# Altium footprint library XF2M-0815-1A.PcbLib: 1 footprints
Each footprint in its own frame and in the unit in brackets; x right, y up, seen from the top. Pads: shape width x height; smd on the part's side, far side on the other; paste and mask are expansions set on the pad; w line width, h text height; cw(c..) or ccw(c..) is an arc to the next point about the centre after c.
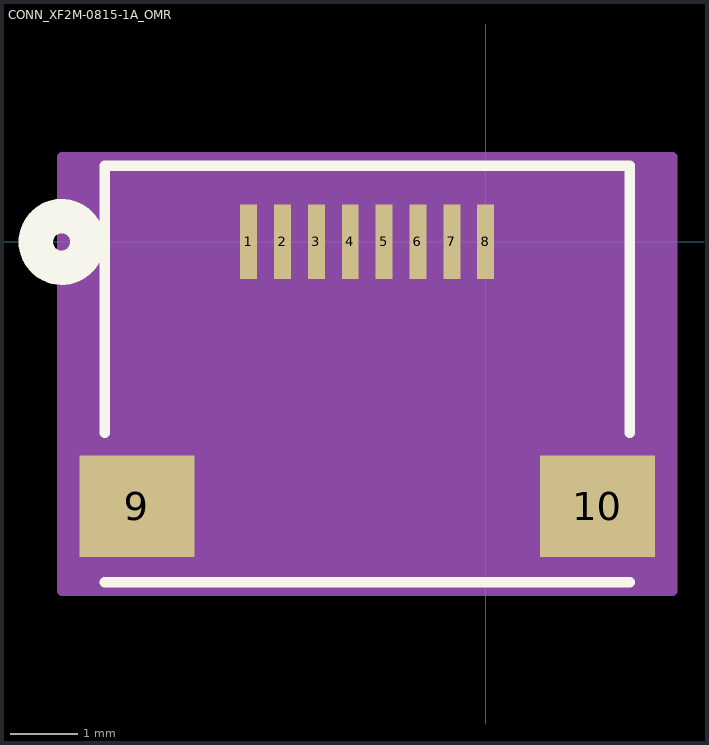
[diagram p0: the footprint, top view; thin cyan lines are the x and y axes]

## CONN_XF2M-0815-1A_OMR [mm]
pads (10):
  rect 0.25x1.1 smd paste+0 mask+0: 1(-3.5,0) 2(-3,0) 3(-2.5,0) 4(-2,0) 5(-1.5,0) 6(-1,0) 7(-0.5,0) 8(0,0)
  rect 1.7x1.5 smd paste-0.85 mask-0.851: 9(-5.15,-3.9) 10(1.65,-3.9)
Top Overlay:
  circle w0.508: c-6.262,0 r0.381
  lines w0.152: -5.627,-5.027 2.127,-5.027 ; -5.627,-2.817 -5.627,1.127 2.127,1.127 2.127,-2.817
  text ".Designator" at -5.242,-0.635 h1.27
Bottom Overlay:
  circle w0.508: c-6.262,0 r0.381
Mechanical 13:
  circle w0.508: c-3.5,-1.905 r0.381
  lines w0.025: -5.5,-4.9 2,-4.9 2,1 -5.5,1 -5.5,-4.9
  text ".Designator" at -5.242,-0.635 h1.27
Mechanical 15:
  region: 2.754,1.254 -6.254,1.254 -6.254,-5.154 2.754,-5.154
  lines w0.152: -6.254,-5.154 -6.254,1.254 2.754,1.254 2.754,-5.154 -6.254,-5.154